# EAGLE library part RFM95C (library agsys-valvecontrol)
RFM95C LoRa Module
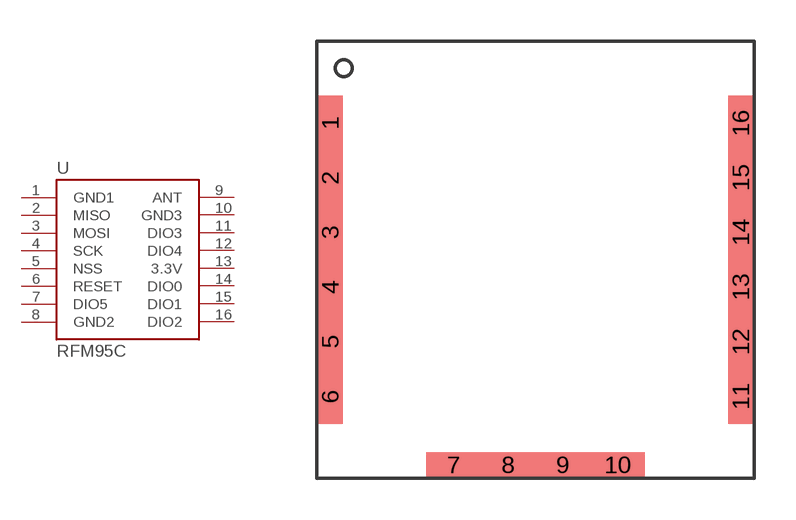
[diagram p6: symbol with the pads of RFM95C; footprint RFM95C]

Designator prefix U

## RFM95C  [RFM95C]
1  GND1  pwr
2  MISO  out
3  MOSI  in
4  SCK  in
5  NSS  in
6  RESET  in
7  DIO5
8  GND2  pwr
9  ANT
10  GND3  pwr
11  DIO3
12  DIO4
13  3.3V  pwr
14  DIO0
15  DIO1
16  DIO2

## Footprint RFM95C (pad centres in mm)
RFM95C LoRa Module 16x16mm
smd 0.9 x 2: 1 -7.5,5; 2 -7.5,3; 3 -7.5,1; 4 -7.5,-1; 5 -7.5,-3; 6 -7.5,-5; 11 7.5,-5; 12 7.5,-3; 13 7.5,-1; 14 7.5,1; 15 7.5,3; 16 7.5,5
smd 2 x 0.9: 7 -3,-7.5; 8 -1,-7.5; 9 1,-7.5; 10 3,-7.5